# EAGLE library part TP4056MOD2-TYPE-C (library ytani1)
リチウム電池充電器モジュール Type-C(TP4056) <https://www.amazon.co.jp/gp/product/B07QTQ46XN>
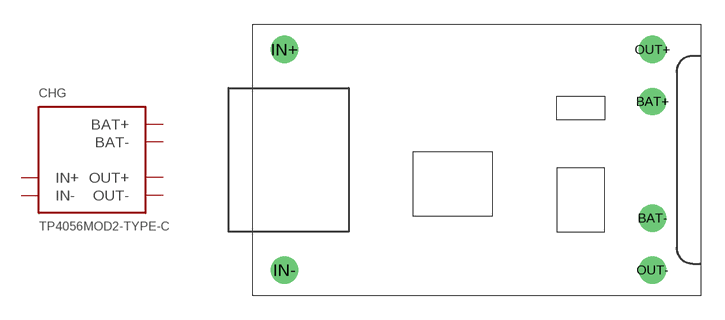
[diagram p1: symbol with the pads of TP4056MOD2-TYPE-C; footprint TP4056MOD2-TYPE-C]

Designator prefix CHG

## TP4056MOD2-TYPE-C  [TP4056MOD2-TYPE-C]
BAT+  BAT+  pas
BAT-  BAT-  pas
IN+  IN+  pas
IN-  IN-  pas
OUT+  OUT+  pas
OUT-  OUT-  pas

## Footprint TP4056MOD2-TYPE-C (pad centres in mm)
drill 1 pad 1.7: BAT+ 11,3.65; BAT- 11,-3.65; IN+ -12,6.9; IN- -12,-6.9; OUT+ 11,6.9; OUT- 11,-6.9